# EAGLE library part 560020-08? (library con-molex-duraclik)
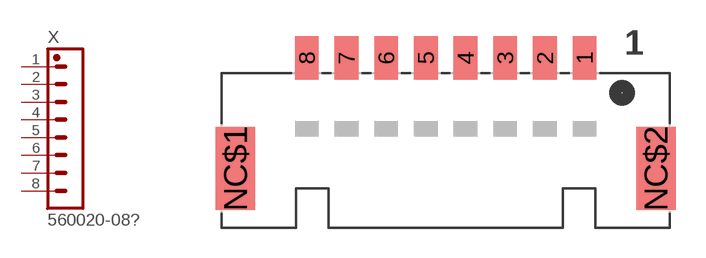
[diagram p0: symbol with the pads of 560020-08; footprint 560020-08]

Designator prefix X

## 560020-0820 (COLOR: Natural; DIGIKEY_PN: WM10868DKR-ND; MFG: Molex; MOUSER_PN: 538-560020-0820; MPN: 560020-0820; PLATING: Sn; SERIES: DuraClick; VALUE: DuraClik 8pos), 560020-0821 (COLOR: Black; DIGIKEY_PN: 900-5600200821DKR-ND; MFG: Molex; MPN: 560020-0821; PLATING: Sn; SERIES: DuraClick; VALUE: DuraClik 8pos), 560020-0822 (COLOR: Red; MFG: Molex; MPN: 560020-0822; PLATING: Sn; SERIES: DuraClick; VALUE: DuraClik 8pos), 560020-0823 (COLOR: Blue; MFG: Molex; MPN: 560020-0823; PLATING: Sn; SERIES: DuraClick; VALUE: DuraClik 8pos), 560020-0830 (COLOR: Natural; MFG: Molex; MPN: 560020-0830; PLATING: Au; SERIES: DuraClick; VALUE: DuraClik 8pos)  [560020-08]
1  1  pas
2  2  pas
3  3  pas
4  4  pas
5  5  pas
6  6  pas
7  7  pas
8  8  pas

## Footprint 560020-08 (pad centres in mm)
smd 1.2 x 2.2: 1 7,5.58; 2 5,5.58; 3 3,5.58; 4 1,5.58; 5 -1,5.58; 6 -3,5.58; 7 -5,5.58; 8 -7,5.58
smd 2 x 4.2: NC$1 -10.6,0; NC$2 10.6,0